# EAGLE library part 10033853 (library Mechanical)
FCI 10033853 200pin SODIMM horizontal latch connector
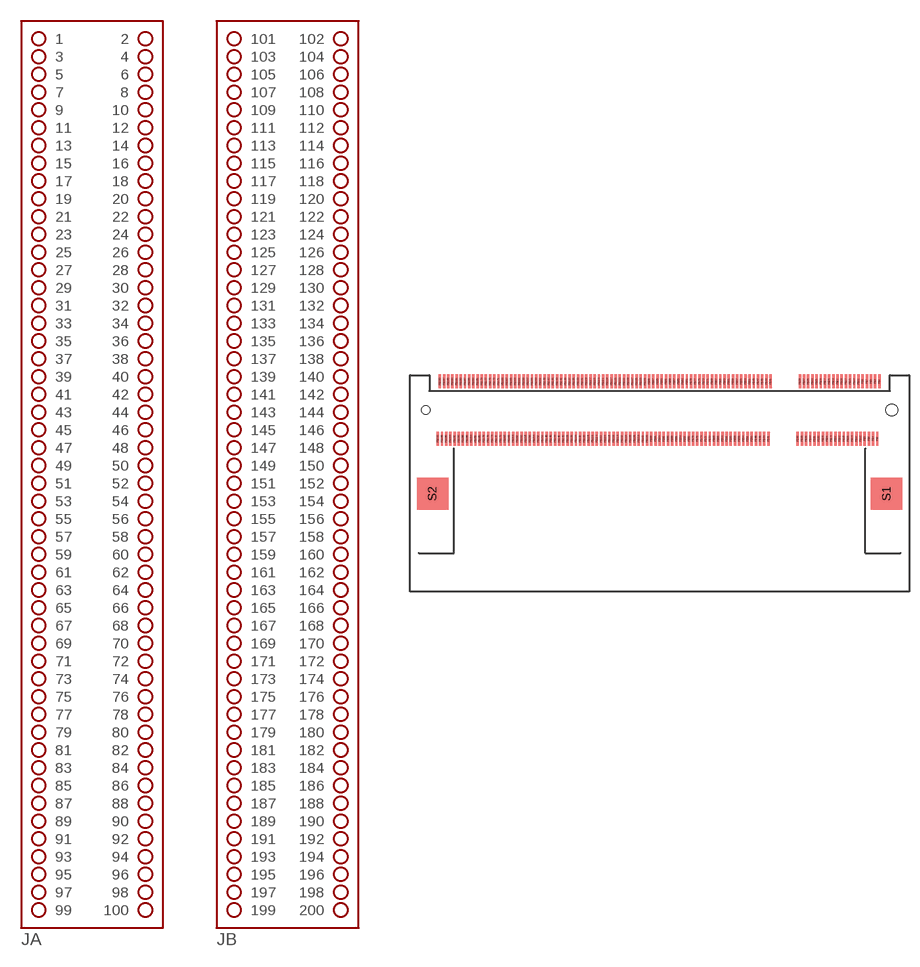
[diagram p61: symbol with the pads of 10033853; footprint 10033853]

Designator prefix J; gates A=PHDR-2X50 B=PHDR-2X50_B

## 10033853  [10033853]
P$1  A:1  pas
P$2  A:2  pas
P$3  A:3  pas
P$4  A:4  pas
P$5  A:5  pas
P$6  A:6  pas
P$7  A:7  pas
P$8  A:8  pas
P$9  A:9  pas
P$10  A:10  pas
P$11  A:11  pas
P$12  A:12  pas
P$13  A:13  pas
P$14  A:14  pas
P$15  A:15  pas
P$16  A:16  pas
P$17  A:17  pas
P$18  A:18  pas
P$19  A:19  pas
P$20  A:20  pas
P$21  A:21  pas
P$22  A:22  pas
P$23  A:23  pas
P$24  A:24  pas
P$25  A:25  pas
P$26  A:26  pas
P$27  A:27  pas
P$28  A:28  pas
P$29  A:29  pas
P$30  A:30  pas
P$31  A:31  pas
P$32  A:32  pas
P$33  A:33  pas
P$34  A:34  pas
P$35  A:35  pas
P$36  A:36  pas
P$37  A:37  pas
P$38  A:38  pas
P$39  A:39  pas
P$40  A:40  pas
P$41  A:41  pas
P$42  A:42  pas
P$43  A:43  pas
P$44  A:44  pas
P$45  A:45  pas
P$46  A:46  pas
P$47  A:47  pas
P$48  A:48  pas
P$49  A:49  pas
P$50  A:50  pas
P$51  A:51  pas
P$52  A:52  pas
P$53  A:53  pas
P$54  A:54  pas
P$55  A:55  pas
P$56  A:56  pas
P$57  A:57  pas
P$58  A:58  pas
P$59  A:59  pas
P$60  A:60  pas
P$61  A:61  pas
P$62  A:62  pas
P$63  A:63  pas
P$64  A:64  pas
P$65  A:65  pas
P$66  A:66  pas
P$67  A:67  pas
P$68  A:68  pas
P$69  A:69  pas
P$70  A:70  pas
P$71  A:71  pas
P$72  A:72  pas
P$73  A:73  pas
P$74  A:74  pas
P$75  A:75  pas
P$76  A:76  pas
P$77  A:77  pas
P$78  A:78  pas
P$79  A:79  pas
P$80  A:80  pas
P$81  A:81  pas
P$82  A:82  pas
P$83  A:83  pas
P$84  A:84  pas
P$85  A:85  pas
P$86  A:86  pas
P$87  A:87  pas
P$88  A:88  pas
P$89  A:89  pas
P$90  A:90  pas
P$91  A:91  pas
P$92  A:92  pas
P$93  A:93  pas
P$94  A:94  pas
P$95  A:95  pas
P$96  A:96  pas
P$97  A:97  pas
P$98  A:98  pas
P$99  A:99  pas
P$100  A:100  pas
P$101  B:101  pas
P$102  B:102  pas
P$103  B:103  pas
P$104  B:104  pas
P$105  B:105  pas
P$106  B:106  pas
P$107  B:107  pas
P$108  B:108  pas
P$109  B:109  pas
P$110  B:110  pas
P$111  B:111  pas
P$112  B:112  pas
P$113  B:113  pas
P$114  B:114  pas
P$115  B:115  pas
P$116  B:116  pas
P$117  B:117  pas
P$118  B:118  pas
P$119  B:119  pas
P$120  B:120  pas
P$121  B:121  pas
P$122  B:122  pas
P$123  B:123  pas
P$124  B:124  pas
P$125  B:125  pas
P$126  B:126  pas
P$127  B:127  pas
P$128  B:128  pas
P$129  B:129  pas
P$130  B:130  pas
P$131  B:131  pas
P$132  B:132  pas
P$133  B:133  pas
P$134  B:134  pas
P$135  B:135  pas
P$136  B:136  pas
P$137  B:137  pas
P$138  B:138  pas
P$139  B:139  pas
P$140  B:140  pas
P$141  B:141  pas
P$142  B:142  pas
P$143  B:143  pas
P$144  B:144  pas
P$145  B:145  pas
P$146  B:146  pas
P$147  B:147  pas
P$148  B:148  pas
P$149  B:149  pas
P$150  B:150  pas
P$151  B:151  pas
P$152  B:152  pas
P$153  B:153  pas
P$154  B:154  pas
P$155  B:155  pas
P$156  B:156  pas
P$157  B:157  pas
P$158  B:158  pas
P$159  B:159  pas
P$160  B:160  pas
P$161  B:161  pas
P$162  B:162  pas
P$163  B:163  pas
P$164  B:164  pas
P$165  B:165  pas
P$166  B:166  pas
P$167  B:167  pas
P$168  B:168  pas
P$169  B:169  pas
P$170  B:170  pas
P$171  B:171  pas
P$172  B:172  pas
P$173  B:173  pas
P$174  B:174  pas
P$175  B:175  pas
P$176  B:176  pas
P$177  B:177  pas
P$178  B:178  pas
P$179  B:179  pas
P$180  B:180  pas
P$181  B:181  pas
P$182  B:182  pas
P$183  B:183  pas
P$184  B:184  pas
P$185  B:185  pas
P$186  B:186  pas
P$187  B:187  pas
P$188  B:188  pas
P$189  B:189  pas
P$190  B:190  pas
P$191  B:191  pas
P$192  B:192  pas
P$193  B:193  pas
P$194  B:194  pas
P$195  B:195  pas
P$196  B:196  pas
P$197  B:197  pas
P$198  B:198  pas
P$199  B:199  pas
P$200  B:200  pas

## Footprint 10033853 (pad centres in mm)
FCI 10033853-*52* 200 Pin SODIMM horizontal latch connector
smd 0.35 x 2: P$1 31.5,4.1; P$2 31.2,-4.1; P$3 30.9,4.1; P$4 30.6,-4.1; P$5 30.3,4.1; P$6 30,-4.1; P$7 29.7,4.1; P$8 29.4,-4.1; P$9 29.1,4.1; P$10 28.8,-4.1; P$11 28.5,4.1; P$12 28.2,-4.1; P$13 27.9,4.1; P$14 27.6,-4.1; P$15 27.3,4.1; P$16 27,-4.1; P$17 26.7,4.1; P$18 26.4,-4.1; P$19 26.1,4.1; P$20 25.8,-4.1; P$21 25.5,4.1; P$22 25.2,-4.1; P$23 24.9,4.1; P$24 24.6,-4.1; P$25 24.3,4.1; P$26 24,-4.1; P$27 23.7,4.1; P$28 23.4,-4.1; P$29 23.1,4.1; P$30 22.8,-4.1; P$31 22.5,4.1; P$32 22.2,-4.1; P$33 21.9,4.1; P$34 21.6,-4.1; P$35 21.3,4.1; P$36 21,-4.1; P$37 20.7,4.1; P$38 20.4,-4.1; P$39 20.1,4.1; P$40 19.8,-4.1; P$41 15.9,4.1; P$42 15.6,-4.1; P$43 15.3,4.1; P$44 15,-4.1; P$45 14.7,4.1; P$46 14.4,-4.1; P$47 14.1,4.1; P$48 13.8,-4.1; P$49 13.5,4.1; P$50 13.2,-4.1; P$51 12.9,4.1; P$52 12.6,-4.1; P$53 12.3,4.1; P$54 12,-4.1; P$55 11.7,4.1; P$56 11.4,-4.1; P$57 11.1,4.1; P$58 10.8,-4.1; P$59 10.5,4.1; P$60 10.2,-4.1; P$61 9.9,4.1; P$62 9.6,-4.1; P$63 9.3,4.1; P$64 9,-4.1; P$65 8.7,4.1; P$66 8.4,-4.1; P$67 8.1,4.1; P$68 7.8,-4.1; P$69 7.5,4.1; P$70 7.2,-4.1; P$71 6.9,4.1; P$72 6.6,-4.1; P$73 6.3,4.1; P$74 6,-4.1; P$75 5.7,4.1; P$76 5.4,-4.1; P$77 5.1,4.1; P$78 4.8,-4.1; P$79 4.5,4.1; P$80 4.2,-4.1; P$81 3.9,4.1; P$82 3.6,-4.1; P$83 3.3,4.1; P$84 3,-4.1; P$85 2.7,4.1; P$86 2.4,-4.1; P$87 2.1,4.1; P$88 1.8,-4.1; P$89 1.5,4.1; P$90 1.2,-4.1; P$91 0.9,4.1; P$92 0.6,-4.1; P$93 0.3,4.1; P$94 0,-4.1; P$95 -0.3,4.1; P$96 -0.6,-4.1; P$97 -0.9,4.1; P$98 -1.2,-4.1; P$99 -1.5,4.1; P$100 -1.8,-4.1; P$101 -2.1,4.1; P$102 -2.4,-4.1; P$103 -2.7,4.1; P$104 -3,-4.1; P$105 -3.3,4.1; P$106 -3.6,-4.1; P$107 -3.9,4.1; P$108 -4.2,-4.1; P$109 -4.5,4.1; P$110 -4.8,-4.1; P$111 -5.1,4.1; P$112 -5.4,-4.1; P$113 -5.7,4.1; P$114 -6,-4.1; P$115 -6.3,4.1; P$116 -6.6,-4.1; P$117 -6.9,4.1; P$118 -7.2,-4.1; P$119 -7.5,4.1; P$120 -7.8,-4.1; P$121 -8.1,4.1; P$122 -8.4,-4.1; P$123 -8.7,4.1; P$124 -9,-4.1; P$125 -9.3,4.1; P$126 -9.6,-4.1; P$127 -9.9,4.1; P$128 -10.2,-4.1; P$129 -10.5,4.1; P$130 -10.8,-4.1; P$131 -11.1,4.1; P$132 -11.4,-4.1; P$133 -11.7,4.1; P$134 -12,-4.1; P$135 -12.3,4.1; P$136 -12.6,-4.1; P$137 -12.9,4.1; P$138 -13.2,-4.1; P$139 -13.5,4.1; P$140 -13.8,-4.1; P$141 -14.1,4.1; P$142 -14.4,-4.1; P$143 -14.7,4.1; P$144 -15,-4.1; P$145 -15.3,4.1; P$146 -15.6,-4.1; P$147 -15.9,4.1; P$148 -16.2,-4.1; P$149 -16.5,4.1; P$150 -16.8,-4.1; P$151 -17.1,4.1; P$152 -17.4,-4.1; P$153 -17.7,4.1; P$154 -18,-4.1; P$155 -18.3,4.1; P$156 -18.6,-4.1; P$157 -18.9,4.1; P$158 -19.2,-4.1; P$159 -19.5,4.1; P$160 -19.8,-4.1; P$161 -20.1,4.1; P$162 -20.4,-4.1; P$163 -20.7,4.1; P$164 -21,-4.1; P$165 -21.3,4.1; P$166 -21.6,-4.1; P$167 -21.9,4.1; P$168 -22.2,-4.1; P$169 -22.5,4.1; P$170 -22.8,-4.1; P$171 -23.1,4.1; P$172 -23.4,-4.1; P$173 -23.7,4.1; P$174 -24,-4.1; P$175 -24.3,4.1; P$176 -24.6,-4.1; P$177 -24.9,4.1; P$178 -25.2,-4.1; P$179 -25.5,4.1; P$180 -25.8,-4.1; P$181 -26.1,4.1; P$182 -26.4,-4.1; P$183 -26.7,4.1; P$184 -27,-4.1; P$185 -27.3,4.1; P$186 -27.6,-4.1; P$187 -27.9,4.1; P$188 -28.2,-4.1; P$189 -28.5,4.1; P$190 -28.8,-4.1; P$191 -29.1,4.1; P$192 -29.4,-4.1; P$193 -29.7,4.1; P$194 -30,-4.1; P$195 -30.3,4.1; P$196 -30.6,-4.1; P$197 -30.9,4.1; P$198 -31.2,-4.1; P$199 -31.5,4.1; P$200 -31.8,-4.1
smd 4.5 x 4.6: S1 32.55,-12; S2 -32.55,-12
hole 1.7 at 33.25,0
hole 1.2 at -33.55,0